# EAGLE library part DF11-08-2DSA (library con-hirose-df11)
HEADER
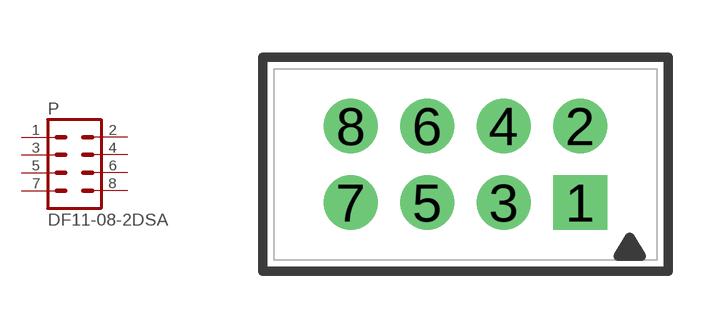
[diagram p1: symbol with the pads of DF11-08DP-2DSA; footprint DF11-08DP-2DSA]

Designator prefix P

## DF11-08-2DSA  [DF11-08DP-2DSA]
1  1  pas
2  2  pas
3  3  pas
4  4  pas
5  5  pas
6  6  pas
7  7  pas
8  8  pas

## Footprint DF11-08DP-2DSA (pad centres in mm)
HEADER
drill 0.914 square: 1 3,-1
drill 0.914: 2 3,1; 3 1,-1; 4 1,1; 5 -1,-1; 6 -1,1; 7 -3,-1; 8 -3,1